# Altium footprint library HDDR_12X1_0.PcbLib: 1 footprints
Each footprint in its own frame and in the unit in brackets; x right, y up, seen from the top. Pads: shape width x height; smd on the part's side, far side on the other; paste and mask are expansions set on the pad; w line width, h text height; cw(c..) or ccw(c..) is an arc to the next point about the centre after c.
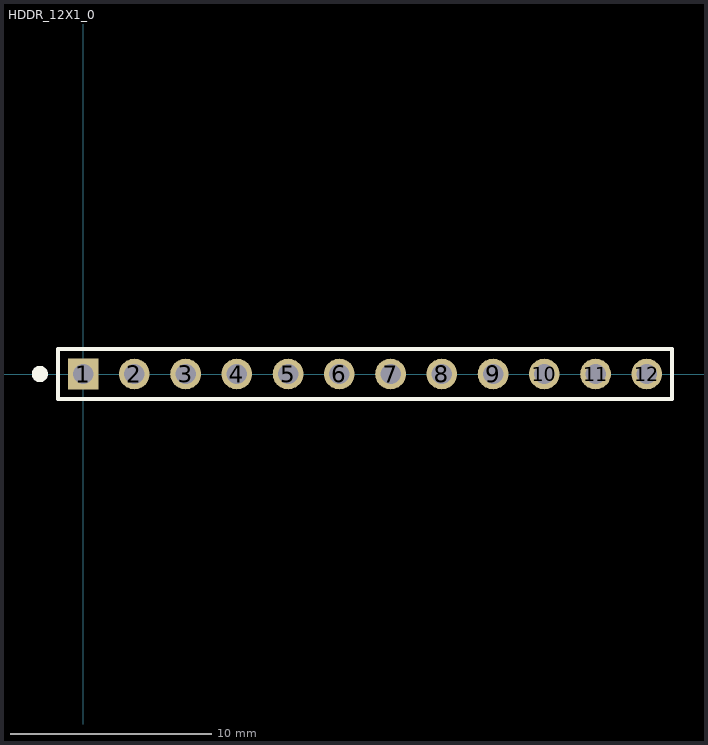
[diagram p0: the footprint, top view; thin cyan lines are the x and y axes]

## HDDR_12X1_0 [mil]
pads (12):
  rect 60x60 hole 40: 1(0,0)
  round 60 hole 40: 2(100,0) 3(200,0) 4(300,0) 5(400,0) 6(500,0) 7(600,0) 8(700,0) 9(800,0) 10(900,0) 11(1000,0) 12(1100,0)
Top Overlay:
  circle w15.75: c-84.45,0 r7.87
  lines w7.87: -49.21,-49.21 1149.61,-49.21 1149.61,49.21 -49.21,49.21 -49.21,-49.21
3D body "hddr_male_12x1.SLDPRT": height 336.22, standoff -118.11, extent -49.8,-50 1150.2,50